# Altium footprint library Monarch.Pcblib: 6 footprints
Each footprint in its own frame and in the unit in brackets; x right, y up, seen from the top. Pads: shape width x height; smd on the part's side, far side on the other; paste and mask are expansions set on the pad; w line width, h text height; cw(c..) or ccw(c..) is an arc to the next point about the centre after c.
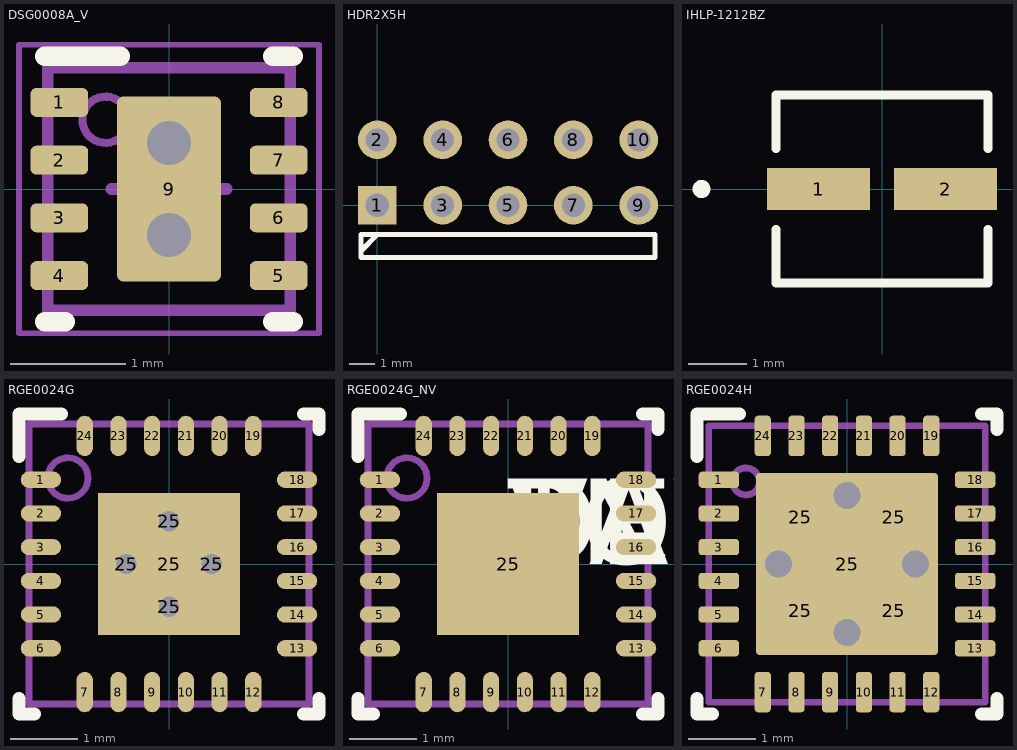
[diagram p0: the footprints below, top view; thin cyan lines are the x and y axes]

## DSG0008A_V [mm] "SON, 8-Leads, Body 2x2mm, Pitch 0.5mm, Thermal Pad 1.6x0.9mm, TI Recommended"
height 0.8
pads (9):
  rrect40% 0.5x0.25 smd: 1(-0.95,0.75) 2(-0.95,0.25) 3(-0.95,-0.25) 4(-0.95,-0.75) 5(0.95,-0.75) 6(0.95,-0.25) 7(0.95,0.25) 8(0.95,0.75)
  rrect11% 0.9x1.6 smd paste-0.45: 9(0,0)
via 0,-0.4 diameter 0.5 hole 0.381
via 0,0.4 diameter 0.5 hole 0.381
Top Overlay:
  lines w0.17: -1.075,-1.15 -0.9,-1.15 ; -1.075,1.15 -0.425,1.15 ; 0.9,-1.15 1.075,-1.15 ; 0.9,1.15 1.075,1.15
Top Paste:
  rectangle: -0.427,-0.733 0.427,0.733
Mechanical 1:
  text ".Designator" at -0.925,-0.25 h0.51
Mechanical 13:
  circle w0.07: c-0.55,0.6 r0.2
  lines w0.1: -1.05,-1.05 1.05,-1.05 1.05,1.05 -1.05,1.05 -1.05,-1.05
Mechanical 15:
  lines w0.05: -1.3,-1.25 -1.3,1.25 1.3,1.25 1.3,-1.25 -1.3,-1.25
  lines w0.1: -0.5,0 0.5,0 ; 0,-0.5 0,0.5
3D body: height 0.8, standoff 0.5, extent -0.749,0.401 -0.351,0.799
3D body: height 0.8, standoff 0, extent -1.05,-1.05 1.05,1.05

## HDR2X5H [mm] "Connector; Header; 5x2 Position; Right Angle"
pads (10):
  rect 1.5x1.5 hole 0.9: 1(0,0)
  round 1.5 hole 0.9: 2(0,2.54) 3(2.54,0) 4(2.54,2.54) 5(5.08,0) 6(5.08,2.54) 7(7.62,0) 8(7.62,2.54) 9(10.16,0) 10(10.16,2.54)
Top Overlay:
  lines w0.2: -0.635,-1.778 0,-1.143 ; -0.635,-2.032 -0.635,-1.143 10.795,-1.143 10.795,-2.032 -0.635,-2.032
3D body "TSW-105-25-L-D-RA.stp": height 5.59, standoff -2.51, extent -1.27,-12.192 11.43,2.857

## IHLP-1212BZ [mil]
pads (2):
  rect 69x28 smd: 1(-42.5,0) 2(42.5,0)
Top Overlay:
  circle w6: c-121,0 r3
  lines w6: -71,-27.1 -71,-63 71,-63 71,-27.1 ; -71,27.1 -71,63 71,63 71,27.1
3D body "IND_IHLP-1212BZ.stp": height 80.98, standoff 0, extent -70.98,-62.99 70.99,63

## RGE0024G [mm]
pads (29):
  oval 0.6x0.24 smd paste+0 mask+0.051: 1(-1.9,1.25) 2(-1.9,0.75) 3(-1.9,0.25) 4(-1.9,-0.25) 5(-1.9,-0.75) 6(-1.9,-1.25) 13(1.9,-1.25) 14(1.9,-0.75) 15(1.9,-0.25) 16(1.9,0.25) 17(1.9,0.75) 18(1.9,1.25)
  oval 0.24x0.6 smd paste+0 mask+0.051: 7(-1.25,-1.9) 8(-0.75,-1.9) 9(-0.25,-1.9) 10(0.25,-1.9) 11(0.75,-1.9) 12(1.25,-1.9) 19(1.25,1.9) 20(0.75,1.9) 21(0.25,1.9) 22(-0.25,1.9) 23(-0.75,1.9) 24(-1.25,1.9)
  round 0.5 / inner round 1.524 / far side round 0.5 hole 0.3 mask+0.051: 25(-0.635,0) 25(0,-0.635) 25(0,0.635) 25(0.635,0)
  rect 2.1x2.1 smd paste-1.037 mask+0.051: 25(0,0)
Top Overlay:
  lines w0.2: -2.225,-2 -2.225,-2.225 -2,-2.225 ; -2.225,1.6 -2.225,2.225 -1.6,2.225 ; 2,-2.225 2.225,-2.225 2.225,-2 ; 2,2.225 2.225,2.225 2.225,2
Top Paste:
  region: 0.1,1.039 0.1,0.1 1.039,0.1 1.039,1.039
  region: -0.1,0.1 -0.1,1.039 -1.039,1.039 -1.039,0.1
  region: -0.1,-1.039 -0.1,-0.1 -1.039,-0.1 -1.039,-1.039
  region: 0.1,-0.1 0.1,-1.039 1.039,-1.039 1.039,-0.1
Mechanical 13:
  circle w0.1: c-1.5,1.275 r0.3
  lines w0.1: -2.075,-2.075 -2.075,2.075 2.075,2.075 2.075,-2.075 -2.075,-2.075
  text ".Designator" at -1.143,-0.889 h0.51
3D body: height 0.25, standoff 0, extent 0,0 0.254,0.254

## RGE0024G_NV [mm]
pads (25):
  oval 0.6x0.24 smd paste+0 mask+0.051: 1(-1.9,1.25) 2(-1.9,0.75) 3(-1.9,0.25) 4(-1.9,-0.25) 5(-1.9,-0.75) 6(-1.9,-1.25) 13(1.9,-1.25) 14(1.9,-0.75) 15(1.9,-0.25) 16(1.9,0.25) 17(1.9,0.75) 18(1.9,1.25)
  oval 0.24x0.6 smd paste+0 mask+0.051: 7(-1.25,-1.9) 8(-0.75,-1.9) 9(-0.25,-1.9) 10(0.25,-1.9) 11(0.75,-1.9) 12(1.25,-1.9) 19(1.25,1.9) 20(0.75,1.9) 21(0.25,1.9) 22(-0.25,1.9) 23(-0.75,1.9) 24(-1.25,1.9)
  rect 2.1x2.1 smd paste-1.037 mask+0.051: 25(0,0)
Top Overlay:
  lines w0.2: -2.225,-2 -2.225,-2.225 -2,-2.225 ; -2.225,1.6 -2.225,2.225 -1.6,2.225 ; 2,-2.225 2.225,-2.225 2.225,-2 ; 2,2.225 2.225,2.225 2.225,2
  text "TOL" at 0,0 h1.27
  text "VAL" at 0,0 h1.27
  text "PN" at 0,0 h1.27
  text "DEV" at 0,0 h1.27
Top Paste:
  region: 0.1,-0.1 0.1,-1.039 1.039,-1.039 1.039,-0.1
  region: -0.1,-1.039 -0.1,-0.1 -1.039,-0.1 -1.039,-1.039
  region: -0.1,0.1 -0.1,1.039 -1.039,1.039 -1.039,0.1
  region: 0.1,1.039 0.1,0.1 1.039,0.1 1.039,1.039
Mechanical 13:
  circle w0.1: c-1.5,1.275 r0.3
  lines w0.1: -2.075,-2.075 2.075,-2.075 2.075,2.075 -2.075,2.075 -2.075,-2.075
  text ".Designator" at -1.854,-0.508 h1.27
3D body: height 0.25, standoff 0, extent 0,0 0.254,0.254

## RGE0024H [mm]
pads (29):
  rrect42% 0.6x0.24 smd: 1(-1.9,1.25) 2(-1.9,0.75) 3(-1.9,0.25) 4(-1.9,-0.25) 5(-1.9,-0.75) 6(-1.9,-1.25) 13(1.9,-1.25) 14(1.9,-0.75) 15(1.9,-0.25) 16(1.9,0.25) 17(1.9,0.75) 18(1.9,1.25)
  rrect42% 0.24x0.6 smd: 7(-1.25,-1.9) 8(-0.75,-1.9) 9(-0.25,-1.9) 10(0.25,-1.9) 11(0.75,-1.9) 12(1.25,-1.9) 19(1.25,1.9) 20(0.75,1.9) 21(0.25,1.9) 22(-0.25,1.9) 23(-0.75,1.9) 24(-1.25,1.9)
  rrect50% 1.19x1.19 on Top Paste: 25(-0.695,-0.695) 25(-0.695,0.695) 25(0.695,-0.695) 25(0.695,0.695)
  rrect4% 2.7x2.7 smd paste-1.35: 25(0,0)
via 0,-1.016 diameter 0.635 hole 0.406
via -1.016,0 diameter 0.635 hole 0.406
via 1.016,0 diameter 0.635 hole 0.406
via 0,1.016 diameter 0.635 hole 0.406
Top Overlay:
  lines w0.2: -2.225,-2 -2.225,-2.225 -2,-2.225 ; -2.225,1.6 -2.225,2.225 -1.6,2.225 ; 2,-2.225 2.225,-2.225 2.225,-2 ; 2,2.225 2.225,2.225 2.225,2
Mechanical 5:
  circle w0.1: c-1.5,1.225 r0.2
  lines w0.1: -2.05,-2.05 -2.05,2.05 2.05,2.05 2.05,-2.05 -2.05,-2.05
  text ".Designator" at -1.397,-0.254 h0.64
3D body: height 1.01, standoff 0.5, extent -1.699,1.026 -1.301,1.424
3D body: height 1, standoff 0, extent -2.075,-2.075 2.075,2.075